# EAGLE library part ALPS105 (library akihabara)
Alps rotary switch. For mounting on the bottom side.
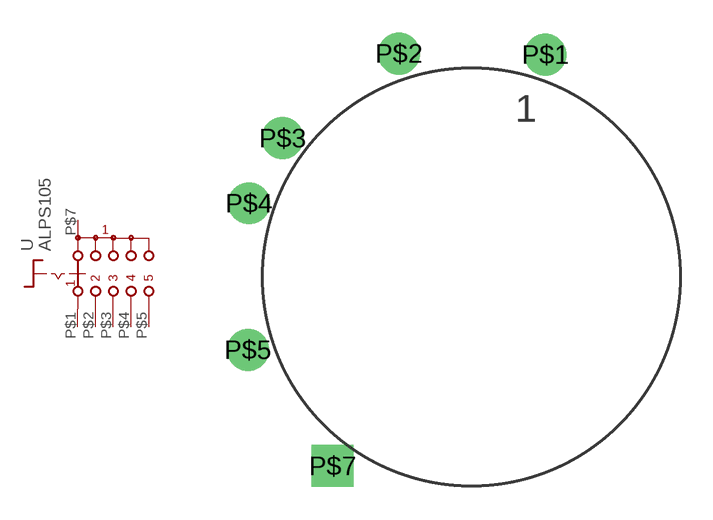
[diagram p0: symbol with the pads of ALPS105; footprint ALPS105]

Designator prefix -

## ALPS105  [ALPS105]
P$1  11  pas
P$2  21  pas
P$3  31  pas
P$4  41  pas
P$5  51  pas
P$7  C1  pas

## Footprint ALPS105 (pad centres in mm)
drill 0.4 pad 1.93 round: P$1 3.4,10.25; P$2 -3.35,10.3; P$3 -8.7,6.4; P$4 -10.25,3.4; P$5 -10.3,-3.35
drill 0.4 pad 1.93 square: P$7 -6.4,-8.7